# Altium footprint library SPECIAL_PASSIVES.PcbLib: 1 footprints
Each footprint in its own frame and in the unit in brackets; x right, y up, seen from the top. Pads: shape width x height; smd on the part's side, far side on the other; paste and mask are expansions set on the pad; w line width, h text height; cw(c..) or ccw(c..) is an arc to the next point about the centre after c.
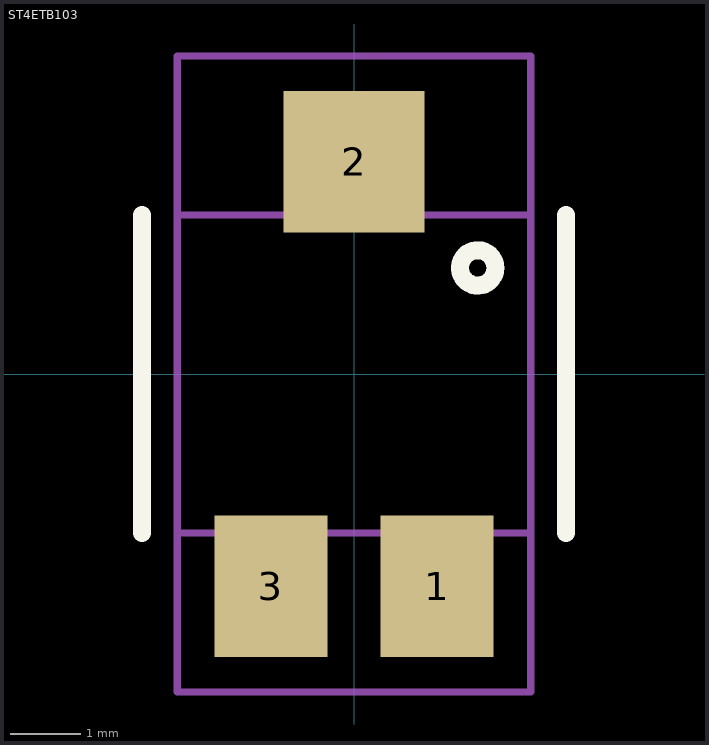
[diagram p0: the footprint, top view; thin cyan lines are the x and y axes]

## ST4ETB103 [mm] "TRIMMER 10K OHM"
pads (3):
  rect 1.6x2 smd: 1(1.175,-3) 3(-1.175,-3)
  rect 2x2 smd: 2(0,3)
Top Overlay:
  circle w0.254: c1.75,1.5 r0.25
  lines w0.254: -3,-2.25 -3,2.25 ; 3,-2.25 3,2.25
Mechanical 11:
  lines w0.1: -2.5,-4.5 -2.5,4.5 2.5,4.5 2.5,-4.5 -2.5,-4.5
  text ".Designator" at -1.25,-0.25 h0.8
Mechanical 13:
  lines w0.1: -2.5,-2.25 2.5,-2.25 2.5,2.25 -2.5,2.25 -2.5,-2.25